# EAGLE library part HDSP-52EX (library Displays)
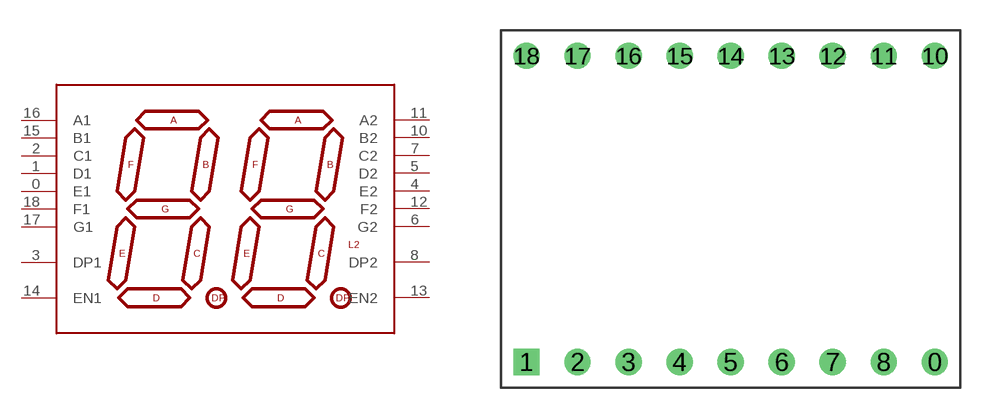
[diagram p0: symbol with the pads of HDSP-52XX; footprint HDSP-52XX]

Designator prefix -

## HDSP-52EX  [HDSP-52XX]
0  E1
1  D1
2  C1
3  DP1
4  E2
5  D2
6  G2
7  C2
8  DP2
10  B2
11  A2
12  F2
13  EN2
14  EN1
15  B1
16  A1
17  G1
18  F1

## Footprint HDSP-52XX (pad centres in mm)
drill 0.8: 0 13.97,-8.89; 2 -3.81,-8.89; 3 -1.27,-8.89; 4 1.27,-8.89; 5 3.81,-8.89; 6 6.35,-8.89; 7 8.89,-8.89; 8 11.43,-8.89; 10 13.97,6.35; 11 11.43,6.35; 12 8.89,6.35; 13 6.35,6.35; 14 3.81,6.35; 15 1.27,6.35; 16 -1.27,6.35; 17 -3.81,6.35; 18 -6.35,6.35
drill 0.8 square: 1 -6.35,-8.89